# Altium schematic symbol library MICROFJ-40035-TSV-TR1.SchLib: 1 symbol
Pins are listed as number, name and electrical type; pins without a type are passive.

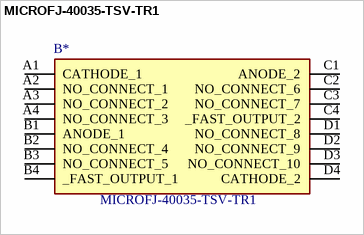
[diagram p0: symbol MICROFJ-40035-TSV-TR1]

## MICROFJ-40035-TSV-TR1
designator B*
Photodiode 420nm 110ps - 14-WBGA; Manufacturer_Name: onsemi; Geometry.Height: 0.67mm; Manufacturer_Part_Number: MICROFJ-40035-TSV-TR1; Mouser Part Number: 863-MFJ40035TSVTR1; Mouser Price/Stock: https://www.mouser.co.uk/ProductDetail/onsemi/MICROFJ-40035-TSV-TR1?qs=byeeYqUIh0Ol5PDp78G1mg%3D%3D; Arrow Part Number: MICROFJ-40035-TSV-TR1; Arrow Price/Stock: https://www.arrow.com/en/products/microfj-40035-tsv-tr1/on-semiconductor?region=nac; Datasheet Link: https://www.onsemi.com/pdf/datasheet/microj-series-d.pdf
footprint MICROFJ40035TSVTR1
pins: A1 CATHODE_1, A2 NO_CONNECT_1, A3 NO_CONNECT_2, A4 NO_CONNECT_3, B1 ANODE_1, B2 NO_CONNECT_4, B3 NO_CONNECT_5, B4 _FAST_OUTPUT_1, C1 ANODE_2, C2 NO_CONNECT_6, C3 NO_CONNECT_7, C4 _FAST_OUTPUT_2, D1 NO_CONNECT_8, D2 NO_CONNECT_9, D3 NO_CONNECT_10, D4 CATHODE_2